# EAGLE library part FPC-16WAY (library pimoroni-fpc)
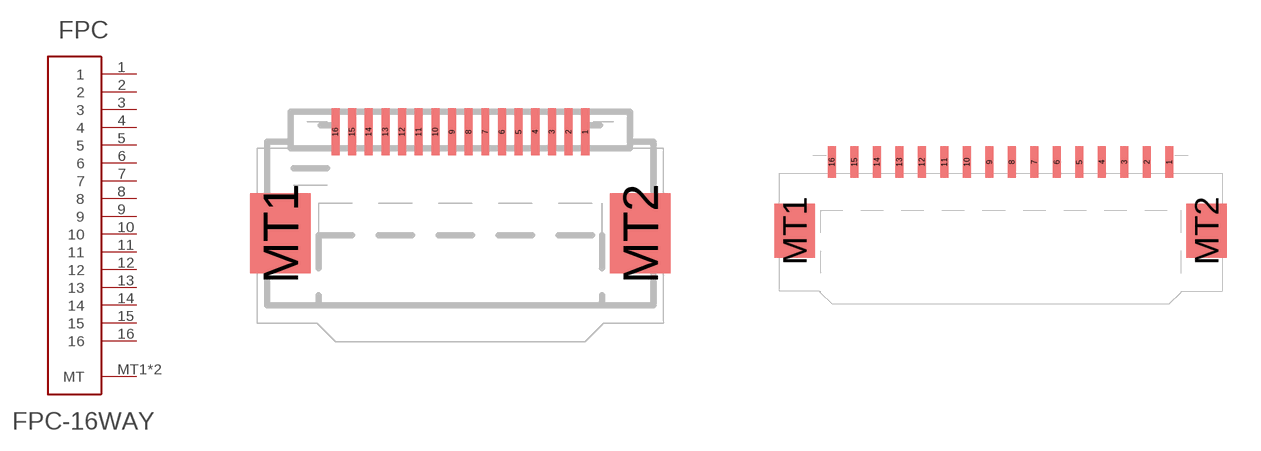
[diagram p11: symbol with the pads of FPC-0.5MM-16WAY; footprints FPC-0.5MM-16WAY, FPC-1.0MM-16WAY]

Designator prefix FPC

## FPC-16WAY0.5  [FPC-0.5MM-16WAY]
1  1
2  2
3  3
4  4
5  5
6  6
7  7
8  8
9  9
10  10
11  11
12  12
13  13
14  14
15  15
16  16
MT1  MT
MT2  MT

## FPC-16WAY1.0  [FPC-1.0MM-16WAY]
Pads as for FPC-0.5MM-16WAY

## Footprint FPC-0.5MM-16WAY (pad centres in mm)
smd 0.24 x 1.4: 1 3.75,0.7; 2 3.25,0.7; 3 2.75,0.7; 4 2.25,0.7; 5 1.75,0.7; 6 1.25,0.7; 7 0.75,0.7; 8 0.25,0.7; 9 -0.25,0.7; 10 -0.75,0.7; 11 -1.25,0.7; 12 -1.75,0.7; 13 -2.25,0.7; 14 -2.75,0.7; 15 -3.25,0.7; 16 -3.75,0.7
smd 1.8 x 2.4: MT1 -5.4,-2.35; MT2 5.4,-2.35

## Footprint FPC-1.0MM-16WAY (pad centres in mm)
smd 0.35 x 1.4: 1 7.5,0.7; 2 6.5,0.7; 3 5.5,0.7; 4 4.5,0.7; 5 3.5,0.7; 6 2.5,0.7; 7 1.5,0.7; 8 0.5,0.7; 9 -0.5,0.7; 10 -1.5,0.7; 11 -2.5,0.7; 12 -3.5,0.7; 13 -4.5,0.7; 14 -5.5,0.7; 15 -6.5,0.7; 16 -7.5,0.7
smd 1.8 x 2.4: MT1 -9.15,-2.35; MT2 9.15,-2.35